# Altium footprint library WR-TBL_Rising Cage Clamp_5.08mm.PcbLib: 81 footprints (part 2 of 6)
Each footprint in its own frame and in the unit in brackets; x right, y up, seen from the top. Pads: shape width x height; smd on the part's side, far side on the other; paste and mask are expansions set on the pad; w line width, h text height; cw(c..) or ccw(c..) is an arc to the next point about the centre after c.
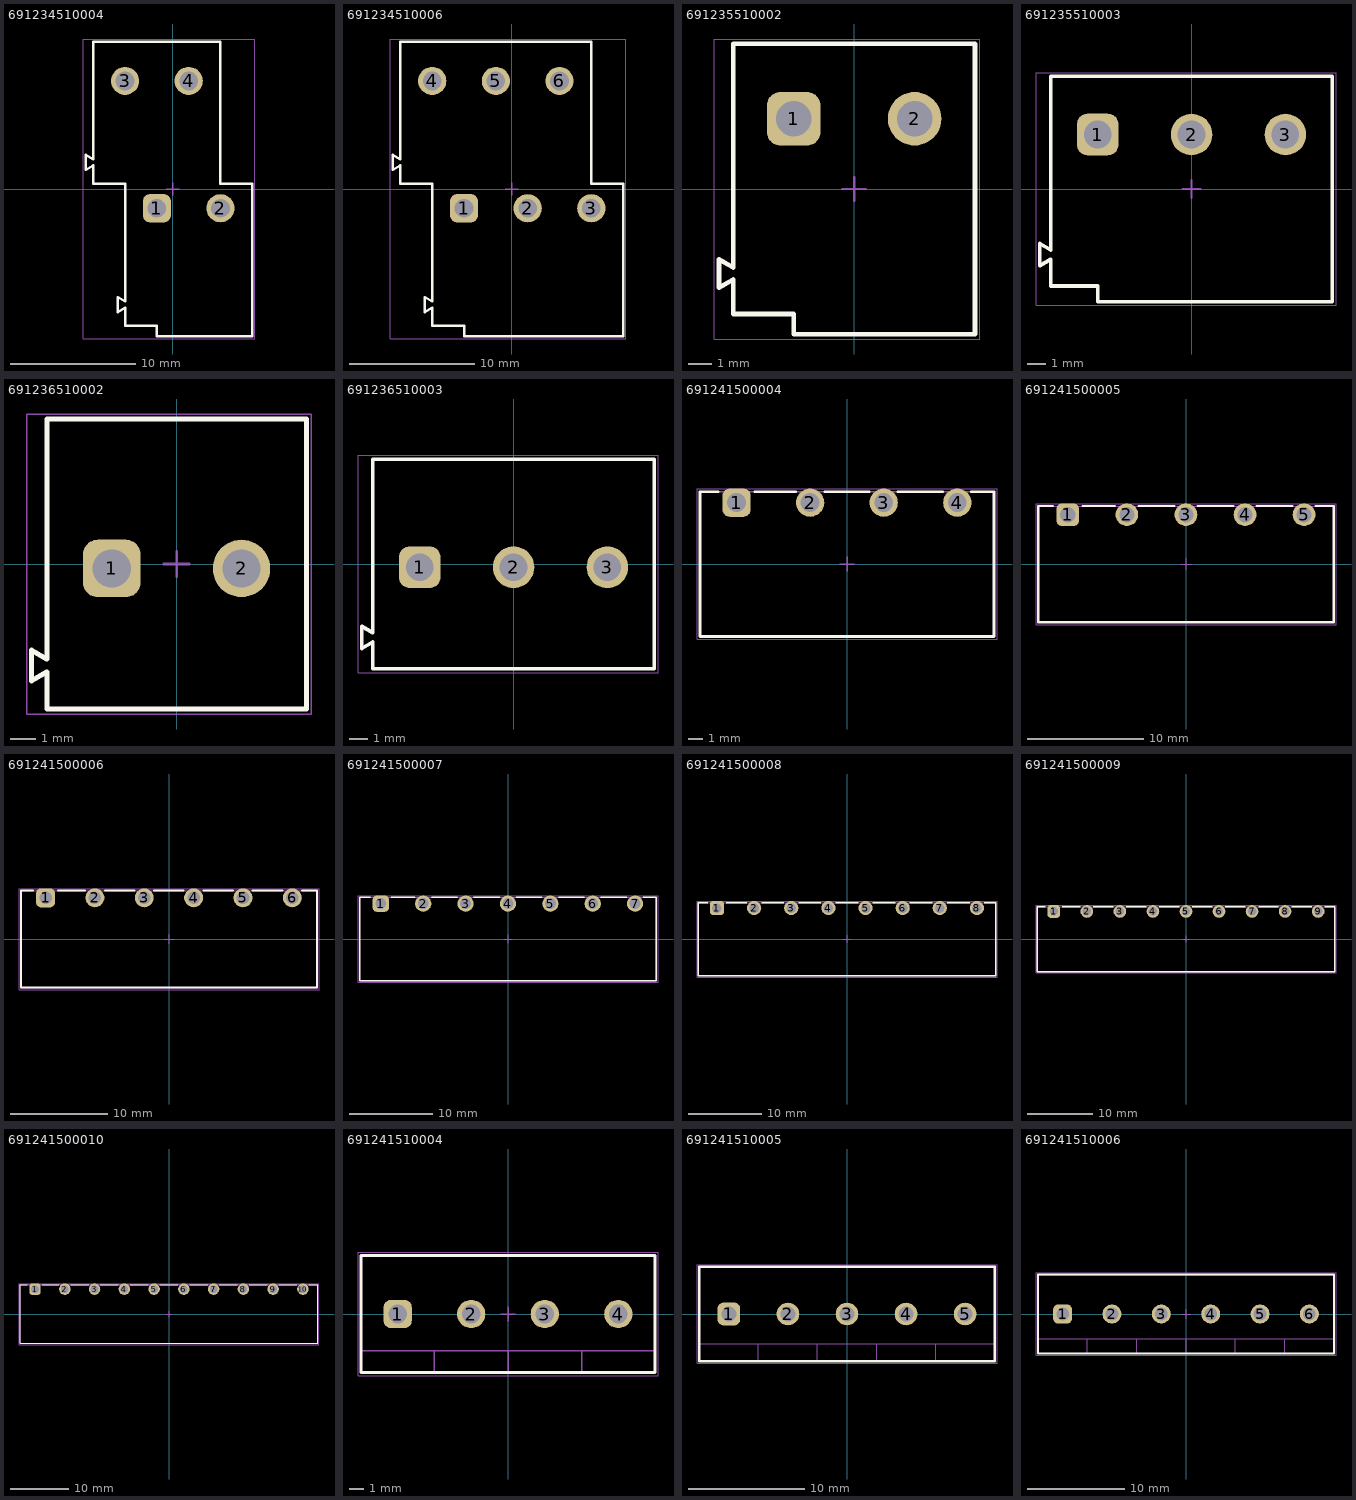
[diagram p1: the footprints below, top view; thin cyan lines are the x and y axes]

## 691234510004 [mm] "Horizontal Cable Entry with Rising Cage Clamp, pitch 5.08mm, 04p"
height 45
pads (4):
  rrect50% 2.25x2.25 hole 1.5: 1(-1.27,-1.535)
  round 2.25 hole 1.5: 2(3.81,-1.535) 3(-3.81,8.625) 4(1.27,8.625)
Top Overlay:
  lines w0.2: -6.351,1.877 -6.95,1.525 -6.95,2.725 -6.351,2.373 -6.351,11.774 ; -6.35,1.875 -6.35,0.425 -3.81,0.425 ; -6.35,11.775 3.81,11.775 3.81,0.425 6.35,0.425 6.35,-11.775 -1.27,-11.775 -1.27,-10.925 -3.81,-10.925 ; -3.811,-10.924 -3.811,-9.473 -4.41,-9.825 -4.41,-8.625 -3.811,-8.977 -3.811,0.424
Top Assembly:
  lines w0.1: -6.351,1.877 -6.95,1.525 -6.95,2.725 -6.351,2.373 -6.351,11.774 ; -6.35,1.875 -6.35,0.425 -3.81,0.425 ; -6.35,11.775 3.81,11.775 3.81,0.425 6.35,0.425 6.35,-11.775 -1.27,-11.775 -1.27,-10.925 -3.81,-10.925 ; -3.811,-10.924 -3.811,-9.473 -4.41,-9.825 -4.41,-8.625 -3.811,-8.977 -3.811,0.424
Top Designator:
  text ".Designator" at -3.647,-0.357 h1
Top 3D Body:
  lines w0.1: -6.351,1.877 -6.95,1.525 -6.95,2.725 -6.351,2.373 -6.351,11.774 ; -6.35,1.875 -6.35,0.425 -3.81,0.425 ; -6.35,11.775 3.81,11.775 3.81,0.425 6.35,0.425 6.35,-11.775 -1.27,-11.775 -1.27,-10.925 -3.81,-10.925 ; -3.811,-10.924 -3.811,-9.473 -4.41,-9.825 -4.41,-8.625 -3.811,-8.977 -3.811,0.424
Top Courtyard:
  lines w0.05: -7.15,-11.975 6.55,-11.975 6.55,11.975 -7.15,11.975 -7.15,-11.975
Top Component Center:
  lines w0.1: -0.5,0 0.5,0 ; 0,-0.5 0,0.5
3D body "691234510004.stp": height 45.1, standoff -3.9, extent -6.95,-11.775 6.35,11.775

## 691234510006 [mm] "Horizontal Cable Entry with Rising Cage Clamp, pitch 5.08mm, 06p"
height 45
pads (6):
  rrect50% 2.25x2.25 hole 1.5: 1(-3.81,-1.535)
  round 2.25 hole 1.5: 2(1.27,-1.535) 3(6.35,-1.535) 4(-6.35,8.625) 5(-1.27,8.625) 6(3.81,8.625)
Top Overlay:
  lines w0.2: -8.891,1.877 -9.49,1.525 -9.49,2.725 -8.891,2.373 -8.891,11.774 ; -8.89,1.875 -8.89,0.425 -6.35,0.425 ; -8.89,11.775 6.35,11.775 6.35,0.425 8.89,0.425 8.89,-11.775 -3.81,-11.775 -3.81,-10.925 -6.35,-10.925 ; -6.351,-10.924 -6.351,-9.473 -6.95,-9.825 -6.95,-8.625 -6.351,-8.977 -6.351,0.424
Top Assembly:
  lines w0.1: -8.891,1.877 -9.49,1.525 -9.49,2.725 -8.891,2.373 -8.891,11.774 ; -8.89,1.875 -8.89,0.425 -6.35,0.425 ; -8.89,11.775 6.35,11.775 6.35,0.425 8.89,0.425 8.89,-11.775 -3.81,-11.775 -3.81,-10.925 -6.35,-10.925 ; -6.351,-10.924 -6.351,-9.473 -6.95,-9.825 -6.95,-8.625 -6.351,-8.977 -6.351,0.424
Top Designator:
  text ".Designator" at -3.647,-0.357 h1
Top 3D Body:
  lines w0.1: -8.891,1.877 -9.49,1.525 -9.49,2.725 -8.891,2.373 -8.891,11.774 ; -8.89,1.875 -8.89,0.425 -6.35,0.425 ; -8.89,11.775 6.35,11.775 6.35,0.425 8.89,0.425 8.89,-11.775 -3.81,-11.775 -3.81,-10.925 -6.35,-10.925 ; -6.351,-10.924 -6.351,-9.473 -6.95,-9.825 -6.95,-8.625 -6.351,-8.977 -6.351,0.424
Top Courtyard:
  lines w0.05: -9.69,-11.975 -9.69,11.975 9.09,11.975 9.09,-11.975 -9.69,-11.975
Top Component Center:
  lines w0.1: -0.5,0 0.5,0 ; 0,-0.5 0,0.5
3D body "691234510006.stp": height 45.1, standoff -3.9, extent -9.49,-11.775 8.89,11.775

## 691235510002 [mm] "Horizontal Cable Entry with Rising Cage Clamp, pitch 5.08, 02p"
height 45
pads (2):
  rrect50% 2.25x2.25 hole 1.5: 1(-2.54,2.95)
  round 2.25 hole 1.5: 2(2.54,2.95)
Top Overlay:
  lines w0.2: -5.081,-3.798 -5.68,-4.15 -5.68,-2.95 -5.081,-3.301 ; -5.08,-3.8 -5.08,-5.25 -2.54,-5.25 -2.54,-6.1 5.08,-6.1 5.08,6.1 -5.08,6.1 ; -5.08,-3.301 -5.08,6.099
Top Assembly:
  lines w0.1: -5.081,-3.798 -5.68,-4.15 -5.68,-2.95 -5.081,-3.301 ; -5.08,-3.8 -5.08,-5.25 -2.54,-5.25 -2.54,-6.1 5.08,-6.1 5.08,6.1 -5.08,6.1 ; -5.08,-3.301 -5.08,6.099
Top Designator:
  text ".Designator" at -3.647,-0.357 h1
Top 3D Body:
  lines w0.1: -5.081,-3.798 -5.68,-4.15 -5.68,-2.95 -5.081,-3.301 ; -5.08,-3.8 -5.08,-5.25 -2.54,-5.25 -2.54,-6.1 5.08,-6.1 5.08,6.1 -5.08,6.1 ; -5.08,-3.301 -5.08,6.099
Top Courtyard:
  lines w0.05: -5.88,-6.3 5.28,-6.3 5.28,6.3 -5.88,6.3 -5.88,-6.3
Top Component Center:
  lines w0.1: -0.5,0 0.5,0 ; 0,-0.5 0,0.5
3D body "691235510002.stp": height 45.1, standoff -3.9, extent -5.68,-6.1 5.08,6.1

## 691235510003 [mm] "Horizontal Cable Entry with Rising Cage Clamp, pitch 5.08, 03p"
height 45
pads (3):
  rrect50% 2.25x2.25 hole 1.5: 1(-5.08,2.95)
  round 2.25 hole 1.5: 2(0,2.95) 3(5.08,2.95)
Top Overlay:
  lines w0.2: -7.621,-3.798 -8.22,-4.15 -8.22,-2.95 -7.621,-3.301 ; -7.62,-3.8 -7.62,-5.25 -5.08,-5.25 -5.08,-6.1 7.62,-6.1 7.62,6.1 -7.62,6.1 ; -7.62,-3.301 -7.62,6.099
Top Assembly:
  lines w0.1: -7.621,-3.798 -8.22,-4.15 -8.22,-2.95 -7.621,-3.301 ; -7.62,-3.8 -7.62,-5.25 -5.08,-5.25 -5.08,-6.1 7.62,-6.1 7.62,6.1 -7.62,6.1 ; -7.62,-3.301 -7.62,6.099
Top Designator:
  text ".Designator" at -3.647,-0.357 h1
Top 3D Body:
  lines w0.1: -7.621,-3.798 -8.22,-4.15 -8.22,-2.95 -7.621,-3.301 ; -7.62,-3.8 -7.62,-5.25 -5.08,-5.25 -5.08,-6.1 7.62,-6.1 7.62,6.1 -7.62,6.1 ; -7.62,-3.301 -7.62,6.099
Top Courtyard:
  lines w0.05: -8.42,-6.3 -8.42,6.3 7.82,6.3 7.82,-6.3 -8.42,-6.3
Top Component Center:
  lines w0.1: -0.5,0 0.5,0 ; 0,-0.5 0,0.5
3D body "691235510003.stp": height 45.1, standoff -3.9, extent -8.22,-6.1 7.62,6.1

## 691236510002 [mm] "Horizontal Cable Entry with Rising Cage Clamp, pitch 5.08mm, 02p"
height 18
pads (2):
  rrect50% 2.25x2.25 hole 1.5: 1(-2.54,-0.175)
  round 2.25 hole 1.5: 2(2.54,-0.175)
Top Overlay:
  lines w0.2: -5.081,-4.223 -5.68,-4.575 -5.68,-3.375 -5.081,-3.727 ; -5.08,-4.225 -5.08,-5.675 5.08,-5.675 5.08,5.675 -5.08,5.675 -5.08,-3.726
Top Assembly:
  lines w0.1: -5.081,-4.223 -5.68,-4.575 -5.68,-3.375 -5.081,-3.727 ; -5.08,-4.225 -5.08,-5.675 5.08,-5.675 5.08,5.675 -5.08,5.675 -5.08,-3.726
Top Designator:
  text ".Designator" at -3.647,-0.357 h1
Top 3D Body:
  lines w0.1: -5.081,-4.223 -5.68,-4.575 -5.68,-3.375 -5.081,-3.727 ; -5.08,-4.225 -5.08,-5.675 5.08,-5.675 5.08,5.675 -5.08,5.675 -5.08,-3.726
Top Courtyard:
  lines w0.05: -5.88,-5.875 -5.88,5.875 5.28,5.875 5.28,-5.875 -5.88,-5.875
Top Component Center:
  lines w0.1: -0.5,0 0.5,0 ; 0,-0.5 0,0.5
3D body "691236510002.stp": height 18.1, standoff -3.9, extent -5.68,-5.675 5.08,5.675

## 691236510003 [mm] "Horizontal Cable Entry with Rising Cage Clamp, pitch 5.08mm, 03p"
height 18
pads (3):
  rrect50% 2.25x2.25 hole 1.5: 1(-5.08,-0.175)
  round 2.25 hole 1.5: 2(0,-0.175) 3(5.08,-0.175)
Top Overlay:
  lines w0.2: -7.621,-4.223 -8.22,-4.575 -8.22,-3.375 -7.621,-3.727 ; -7.62,-4.225 -7.62,-5.675 7.62,-5.675 7.62,5.675 -7.62,5.675 -7.62,-3.726
Top Assembly:
  lines w0.1: -7.621,-4.223 -8.22,-4.575 -8.22,-3.375 -7.621,-3.727 ; -7.62,-4.225 -7.62,-5.675 7.62,-5.675 7.62,5.675 -7.62,5.675 -7.62,-3.726
Top Designator:
  text ".Designator" at -3.647,-0.357 h1
Top 3D Body:
  lines w0.1: -7.621,-4.223 -8.22,-4.575 -8.22,-3.375 -7.621,-3.727 ; -7.62,-4.225 -7.62,-5.675 7.62,-5.675 7.62,5.675 -7.62,5.675 -7.62,-3.726
Top Courtyard:
  lines w0.05: -8.42,-5.875 7.82,-5.875 7.82,5.875 -8.42,5.875 -8.42,-5.875
Top Component Center:
  lines w0.1: -0.5,0 0.5,0 ; 0,-0.5 0,0.5
3D body "691236510003.stp": height 18.1, standoff -3.9, extent -8.22,-5.675 7.62,5.675

## 691241500004 [mm] "Serie 2415-5.08mm Vertical Cable Entry with Rising Cage Clamp, 4 pins"
height 8.1
pads (4):
  rrect50% 1.95x1.95 hole 1.3: 1(-7.625,4.25)
  round 1.95 hole 1.3: 2(-2.545,4.25) 3(2.535,4.25) 4(7.615,4.25)
Top Overlay:
  lines w0.2: -8.91,5 -10.16,5 -10.16,-5 10.16,-5 10.16,5 8.61,5 ; -6.36,5 -3.56,5 ; -1.53,5 1.54,5 ; 3.53,5 6.6,5
Top Assembly:
  lines w0.1: -10.16,-5 -10.16,5 10.16,5 10.16,-5 -10.16,-5
Top Designator:
  text ".Designator" at -3.647,-0.357 h1
Top 3D Body:
  lines w0.1: -10.16,-5 10.16,-5 10.16,5 -10.16,5 -10.16,-5
Top Courtyard:
  lines w0.05: -10.36,-5.2 10.36,-5.2 10.36,5.2 -10.36,5.2 -10.36,-5.2
Top Component Center:
  lines w0.1: -0.5,0 0.5,0 ; 0,-0.5 0,0.5
3D body "691241500004.stp": height 8.2, standoff -3.4, extent -10.165,-5 10.155,5

## 691241500005 [mm] "Serie 2415-5.08mm Vertical Cable Entry with Rising Cage Clamp, 5 pins"
height 8.1
pads (5):
  rrect50% 1.95x1.95 hole 1.3: 1(-10.165,4.25)
  round 1.95 hole 1.3: 2(-5.085,4.25) 3(-0.005,4.25) 4(5.075,4.25) 5(10.155,4.25)
Top Overlay:
  lines w0.2: -11.45,5 -12.7,5 -12.7,-5 12.7,-5 12.7,5 11.15,5 ; -8.9,5 -6.1,5 ; -4.07,5 -1,5 ; 0.99,5 4.06,5 ; 6.07,5 9.14,5
Top Assembly:
  lines w0.1: -12.7,-5 12.7,-5 12.7,5 -12.7,5 -12.7,-5
Top Designator:
  text ".Designator" at -3.647,-0.357 h1
Top 3D Body:
  lines w0.1: -12.7,-5 -12.7,5 12.7,5 12.7,-5 -12.7,-5
Top Courtyard:
  lines w0.05: -12.9,-5.2 -12.9,5.2 12.9,5.2 12.9,-5.2 -12.9,-5.2
Top Component Center:
  lines w0.1: -0.5,0 0.5,0 ; 0,-0.5 0,0.5
3D body "691241500005.stp": height 8.2, standoff -3.4, extent -12.705,-5 12.695,5

## 691241500006 [mm] "Serie 2415-5.08mm Vertical Cable Entry with Rising Cage Clamp, 6 pins"
height 8.1
pads (6):
  rrect50% 1.95x1.95 hole 1.3: 1(-12.705,4.25)
  round 1.95 hole 1.3: 2(-7.625,4.25) 3(-2.545,4.25) 4(2.535,4.25) 5(7.615,4.25) 6(12.695,4.25)
Top Overlay:
  lines w0.2: -13.99,5 -15.24,5 -15.24,-5 15.24,-5 15.24,5 13.69,5 ; -11.44,5 -8.64,5 ; -6.61,5 -3.54,5 ; -1.55,5 1.52,5 ; 3.53,5 6.6,5 ; 8.61,5 11.68,5
Top Assembly:
  lines w0.1: -15.24,-5 15.24,-5 15.24,5 -15.24,5 -15.24,-5
Top Designator:
  text ".Designator" at -3.647,-0.357 h1
Top 3D Body:
  lines w0.1: -15.24,-5 -15.24,5 15.24,5 15.24,-5 -15.24,-5
Top Courtyard:
  lines w0.05: -15.44,-5.2 -15.44,5.2 15.44,5.2 15.44,-5.2 -15.44,-5.2
Top Component Center:
  lines w0.1: -0.5,0 0.5,0 ; 0,-0.5 0,0.5
3D body "691241500006.stp": height 8.2, standoff -3.4, extent -15.245,-5 15.235,5

## 691241500007 [mm] "Serie 2415-5.08mm Vertical Cable Entry with Rising Cage Clamp, 7 pins"
height 8.1
pads (7):
  rrect50% 1.95x1.95 hole 1.3: 1(-15.245,4.25)
  round 1.95 hole 1.3: 2(-10.165,4.25) 3(-5.085,4.25) 4(-0.005,4.25) 5(5.075,4.25) 6(10.155,4.25) 7(15.235,4.25)
Top Overlay:
  lines w0.2: -16.53,5 -17.78,5 -17.78,-5 17.78,-5 17.78,5 16.23,5 ; -13.98,5 -11.18,5 ; -9.15,5 -6.08,5 ; -4.09,5 -1.02,5 ; 0.99,5 4.06,5 ; 6.07,5 9.14,5 ; 11.15,5 14.22,5
Top Assembly:
  lines w0.1: -17.78,-5 17.78,-5 17.78,5 -17.78,5 -17.78,-5
Top Designator:
  text ".Designator" at -3.647,-0.357 h1
Top 3D Body:
  lines w0.1: -17.78,-5 -17.78,5 17.78,5 17.78,-5 -17.78,-5
Top Courtyard:
  lines w0.05: -17.98,-5.2 -17.98,5.2 17.98,5.2 17.98,-5.2 -17.98,-5.2
Top Component Center:
  lines w0.1: -0.5,0 0.5,0 ; 0,-0.5 0,0.5
3D body "691241500007.stp": height 8.2, standoff -3.4, extent -17.785,-5 17.775,5

## 691241500008 [mm] "Serie 2415-5.08mm Vertical Cable Entry with Rising Cage Clamp, 8 pins"
height 8.1
pads (8):
  rrect50% 1.95x1.95 hole 1.3: 1(-17.785,4.25)
  round 1.95 hole 1.3: 2(-12.705,4.25) 3(-7.625,4.25) 4(-2.545,4.25) 5(2.535,4.25) 6(7.615,4.25) 7(12.695,4.25) 8(17.775,4.25)
Top Overlay:
  lines w0.2: -19.07,5 -20.32,5 -20.32,-5 20.32,-5 20.32,5 18.77,5 ; -16.52,5 -13.72,5 ; -11.69,5 -8.62,5 ; -6.63,5 -3.56,5 ; -1.55,5 1.52,5 ; 3.53,5 6.6,5 ; 8.61,5 11.68,5 ; 13.69,5 16.76,5
Top Assembly:
  lines w0.1: -20.32,-5 -20.32,5 20.32,5 20.32,-5 -20.32,-5
Top Designator:
  text ".Designator" at -3.647,-0.357 h1
Top 3D Body:
  lines w0.1: -20.32,-5 20.32,-5 20.32,5 -20.32,5 -20.32,-5
Top Courtyard:
  lines w0.05: -20.52,-5.2 20.52,-5.2 20.52,5.2 -20.52,5.2 -20.52,-5.2
Top Component Center:
  lines w0.1: -0.5,0 0.5,0 ; 0,-0.5 0,0.5
3D body "691241500008.stp": height 8.2, standoff -3.4, extent -20.325,-5 20.315,5

## 691241500009 [mm] "Serie 2415-5.08mm Vertical Cable Entry with Rising Cage Clamp, 9 pins"
height 8.1
pads (9):
  rrect50% 1.95x1.95 hole 1.3: 1(-20.325,4.25)
  round 1.95 hole 1.3: 2(-15.245,4.25) 3(-10.165,4.25) 4(-5.085,4.25) 5(-0.005,4.25) 6(5.075,4.25) 7(10.155,4.25) 8(15.235,4.25) 9(20.315,4.25)
Top Overlay:
  lines w0.2: -21.61,5 -22.86,5 -22.86,-5 22.86,-5 22.86,5 21.31,5 ; -19.06,5 -16.26,5 ; -14.23,5 -11.16,5 ; -9.17,5 -6.1,5 ; -4.09,5 -1.02,5 ; 0.99,5 4.06,5 ; 6.07,5 9.14,5 ; 11.15,5 14.22,5 ; 16.23,5 19.3,5
Top Assembly:
  lines w0.1: -22.86,-5 -22.86,5 22.86,5 22.86,-5 -22.86,-5
Top Designator:
  text ".Designator" at -3.647,-0.357 h1
Top 3D Body:
  lines w0.1: -22.86,-5 22.86,-5 22.86,5 -22.86,5 -22.86,-5
Top Courtyard:
  lines w0.05: -23.06,-5.2 23.06,-5.2 23.06,5.2 -23.06,5.2 -23.06,-5.2
Top Component Center:
  lines w0.1: -0.5,0 0.5,0 ; 0,-0.5 0,0.5
3D body "691241500009.stp": height 8.2, standoff -3.4, extent -22.865,-5 22.855,5

## 691241500010 [mm] "Serie 2415-5.08mm Vertical Cable Entry with Rising Cage Clamp, 10 pins"
height 8.1
pads (10):
  rrect50% 1.95x1.95 hole 1.3: 1(-22.865,4.25)
  round 1.95 hole 1.3: 2(-17.785,4.25) 3(-12.705,4.25) 4(-7.625,4.25) 5(-2.545,4.25) 6(2.535,4.25) 7(7.615,4.25) 8(12.695,4.25) 9(17.775,4.25) 10(22.855,4.25)
Top Overlay:
  lines w0.2: -24.15,5 -25.4,5 -25.4,-5 25.4,-5 25.4,5 23.85,5 ; -21.6,5 -18.8,5 ; -16.77,5 -13.7,5 ; -11.71,5 -8.64,5 ; -6.63,5 -3.56,5 ; -1.55,5 1.52,5 ; 3.53,5 6.6,5 ; 8.61,5 11.68,5 ; 13.69,5 16.76,5 ; 18.77,5 21.84,5
Top Assembly:
  lines w0.1: -25.4,-5 25.4,-5 25.4,5 -25.4,5 -25.4,-5
Top Designator:
  text ".Designator" at -3.647,-0.357 h1
Top 3D Body:
  lines w0.1: -25.4,-5 -25.4,5 25.4,5 25.4,-5 -25.4,-5
Top Courtyard:
  lines w0.05: -25.6,-5.2 -25.6,5.2 25.6,5.2 25.6,-5.2 -25.6,-5.2
Top Component Center:
  lines w0.1: -0.5,0 0.5,0 ; 0,-0.5 0,0.5
3D body "691241500010.stp": height 8.2, standoff -3.4, extent -25.405,-5 25.395,5

## 691241510004 [mm] "Serie 2415 - 5.08 mm _ 4 pins"
height 10
pads (4):
  rrect50% 1.95x1.95 hole 1.3: 1(-7.62,0)
  round 1.95 hole 1.3: 2(-2.54,0) 3(2.54,0) 4(7.62,0)
Top Overlay:
  lines w0.2: -10.16,-4.05 10.16,-4.05 10.16,4.05 -10.16,4.05 -10.16,-4.05
Top Assembly:
  lines w0.1: -10.16,-2.55 10.16,-2.55 ; -5.08,-4.05 -5.08,-2.55 ; 0,-4.05 0,-2.55 ; 5.08,-4.05 5.08,-2.55 ; -10.16,-4.05 -10.16,4.05 10.16,4.05 10.16,-4.05 -10.16,-4.05
Top Designator:
  text ".Designator" at -3.647,-0.357 h1
Top 3D Body:
  lines w0.1: -10.16,-2.55 10.16,-2.55 ; -5.08,-4.05 -5.08,-2.55 ; 0,-4.05 0,-2.55 ; 5.08,-4.05 5.08,-2.55 ; -10.16,-4.05 10.16,-4.05 10.16,4.05 -10.16,4.05 -10.16,-4.05
Top Courtyard:
  lines w0.05: -10.36,-4.25 10.36,-4.25 10.36,4.25 -10.36,4.25 -10.36,-4.25
Top Component Center:
  lines w0.1: -0.5,0 0.5,0 ; 0,-0.5 0,0.5
3D body "691241510004.stp": height 10.05, standoff -3.45, extent -10.16,-4.05 10.16,4.05

## 691241510005 [mm] "Serie 2415 - 5.08 mm _ 5 pins"
height 10
pads (5):
  rrect50% 1.95x1.95 hole 1.3: 1(-10.16,0)
  round 1.95 hole 1.3: 2(-5.08,0) 3(0,0) 4(5.08,0) 5(10.16,0)
Top Overlay:
  lines w0.2: -12.7,-4.05 12.7,-4.05 12.7,4.05 -12.7,4.05 -12.7,-4.05
Top Assembly:
  lines w0.1: -12.7,-2.55 12.7,-2.55 ; -7.62,-4.05 -7.62,-2.55 ; -2.54,-4.05 -2.54,-2.55 ; 2.54,-4.05 2.54,-2.55 ; 7.62,-4.05 7.62,-2.55 ; -12.7,-4.05 -12.7,4.05 12.7,4.05 12.7,-4.05 -12.7,-4.05
Top Designator:
  text ".Designator" at -3.647,-0.357 h1
Top 3D Body:
  lines w0.1: -12.7,-2.55 12.7,-2.55 ; -7.62,-4.05 -7.62,-2.55 ; -2.54,-4.05 -2.54,-2.55 ; 2.54,-4.05 2.54,-2.55 ; 7.62,-4.05 7.62,-2.55 ; -12.7,-4.05 12.7,-4.05 12.7,4.05 -12.7,4.05 -12.7,-4.05
Top Courtyard:
  lines w0.05: -12.9,-4.25 12.9,-4.25 12.9,4.25 -12.9,4.25 -12.9,-4.25
Top Component Center:
  lines w0.1: -0.5,0 0.5,0 ; 0,-0.5 0,0.5
3D body "691241510005.stp": height 10.05, standoff -3.45, extent -12.7,-4.05 12.7,4.05

## 691241510006 [mm] "Serie 2415 - 5.08 mm _ 6 pins"
height 10
pads (6):
  rrect50% 1.95x1.95 hole 1.3: 1(-12.7,0)
  round 1.95 hole 1.3: 2(-7.62,0) 3(-2.54,0) 4(2.54,0) 5(7.62,0) 6(12.7,0)
Top Overlay:
  lines w0.2: -15.24,-4.05 -15.24,4.05 15.24,4.05 15.24,-4.05 -15.24,-4.05
Top Assembly:
  lines w0.1: -15.24,-2.55 15.24,-2.55 ; -10.16,-4.05 -10.16,-2.55 ; -5.08,-4.05 -5.08,-2.55 ; 0,-4.05 0,-2.55 ; 5.08,-4.05 5.08,-2.55 ; 10.16,-4.04 10.16,-2.54 ; -15.24,-4.05 15.24,-4.05 15.24,4.05 -15.24,4.05 -15.24,-4.05
Top Designator:
  text ".Designator" at -3.647,-0.357 h1
Top 3D Body:
  lines w0.1: -15.24,-2.55 15.24,-2.55 ; -10.16,-4.05 -10.16,-2.55 ; -5.08,-4.05 -5.08,-2.55 ; 0,-4.05 0,-2.55 ; 5.08,-4.05 5.08,-2.55 ; 10.16,-4.04 10.16,-2.54 ; -15.24,-4.05 -15.24,4.05 15.24,4.05 15.24,-4.05 -15.24,-4.05
Top Courtyard:
  lines w0.05: -15.44,-4.25 -15.44,4.25 15.44,4.25 15.44,-4.25 -15.44,-4.25
Top Component Center:
  lines w0.1: -0.5,0 0.5,0 ; 0,-0.5 0,0.5
3D body "691241510006.stp": height 10.05, standoff -3.45, extent -15.24,-4.05 15.24,4.05